# EAGLE library part LTC2850HMS8PBF (library LTC2850HMS8PBF)
Check prices <https://pricing.snapeda.com/parts/LTC2850HMS8%23PBF/Linear%20Technology/view-part?ref=eda>
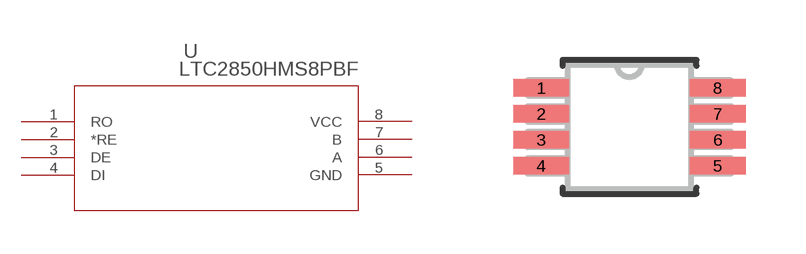
[diagram p0: symbol with the pads of MSOP-8_MS; footprint MSOP-8_MS]

Designator prefix U

## LTC2850HMS8PBF (Availability: In Stock; Description: 1/1 Transceiver Half RS422, RS485 8-MSOP; MF: Linear Technology; MP: LTC2850HMS8#PBF; Package: MSOP-8 Linear Technology; Price: None)  [MSOP-8_MS]
1  RO  out
2  *RE  in
3  DE  in
4  DI  in
5  GND  pwr
6  A  in
7  B  in
8  VCC  pwr

## Footprint MSOP-8_MS (pad centres in mm)
smd 1.397 x 0.432: 1 -2.21,0.975; 2 -2.21,0.325; 3 -2.21,-0.325; 4 -2.21,-0.975; 5 2.21,-0.975; 6 2.21,-0.325; 7 2.21,0.325; 8 2.21,0.975